# Altium schematic symbol library Own_lib.SchLib: 57 symbols
Pins are listed as number, name and electrical type; pins without a type are passive.

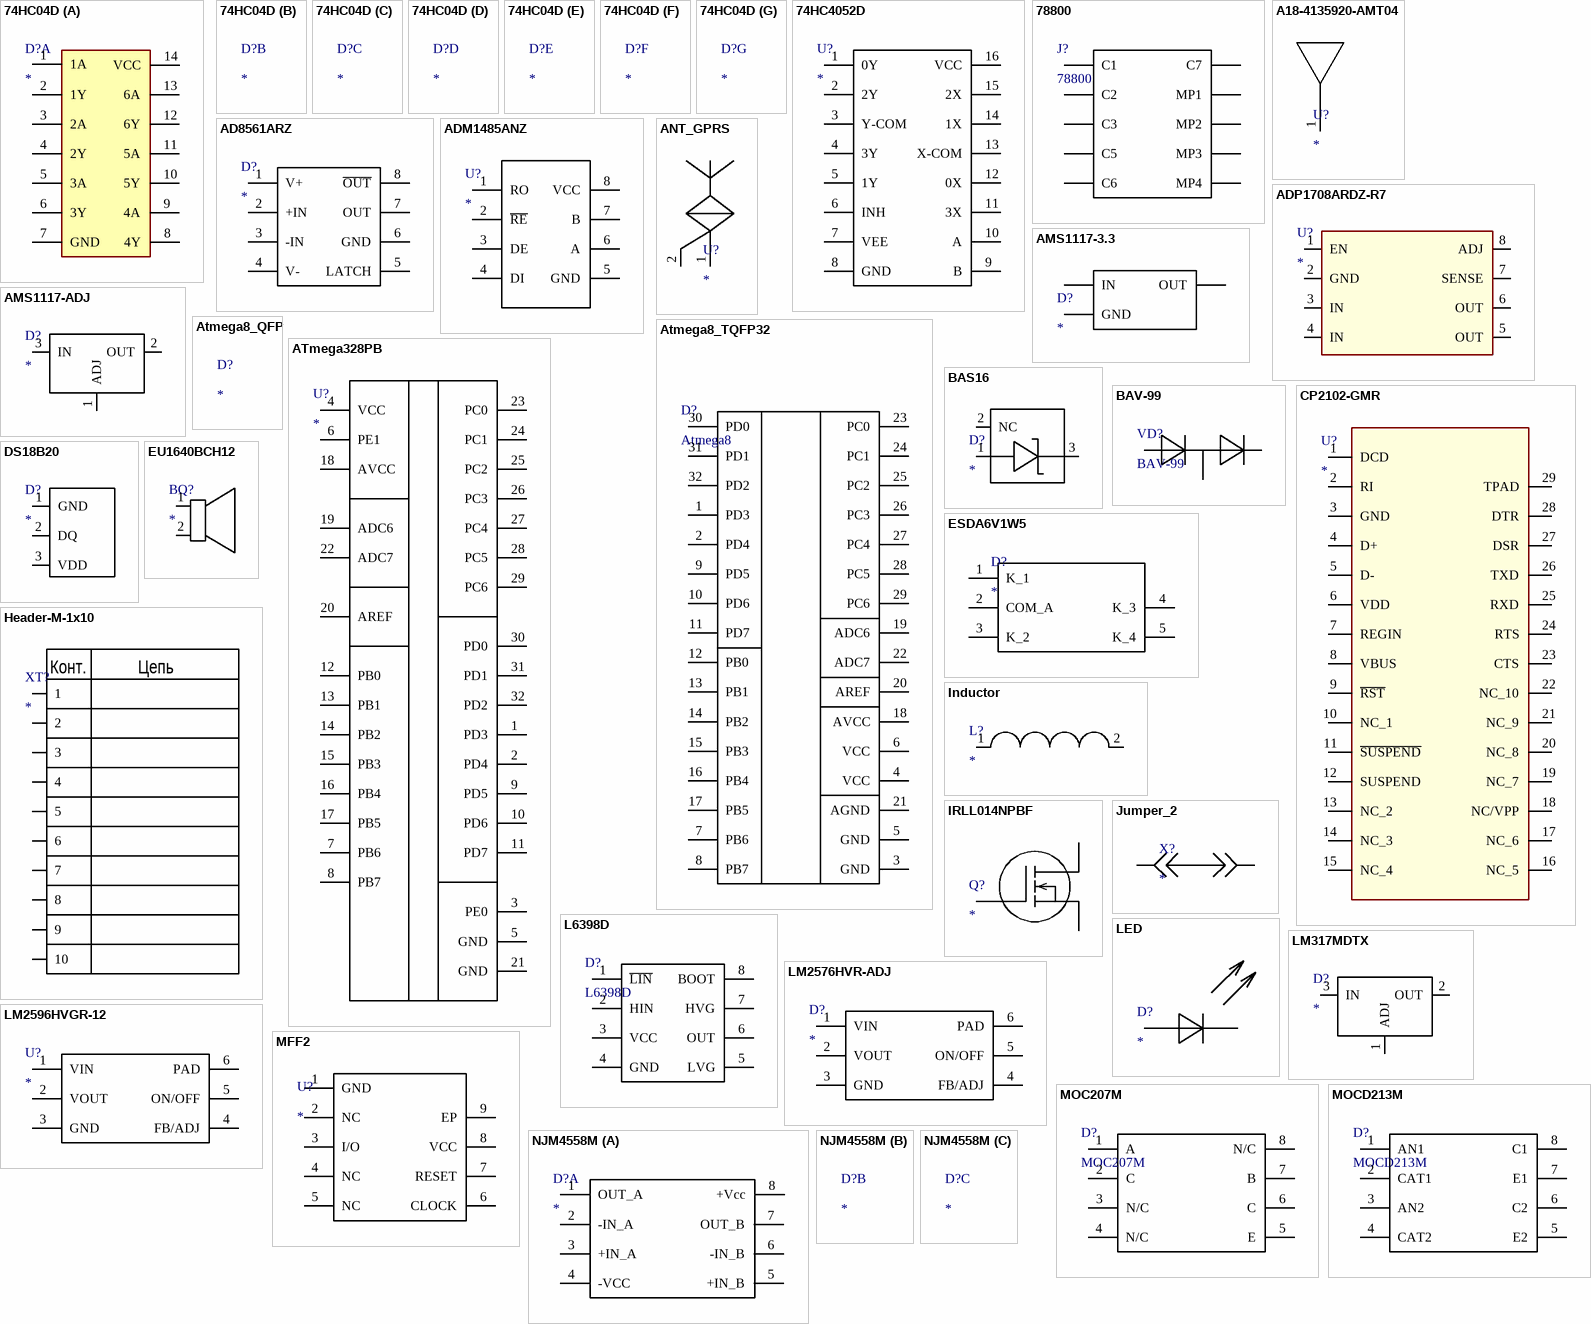
[diagram p0: symbols 74HC04D to NJM4558M]

## 74HC04D
designator D?
footprint SOIC127P600X175-14N
part A pins: 1 1A, 2 1Y, 3 2A, 4 2Y, 5 3A, 6 3Y, 7 GND, 8 4Y, 9 4A, 10 5Y, 11 5A, 12 6Y, 13 6A, 14 VCC
1 alternate drawing of the same symbol

## 74HC4052D
designator U?
footprint SOIC127P600X175-16N
pins: 1 0Y, 2 2Y, 3 Y-COM, 4 3Y, 5 1Y, 6 INH, 7 VEE, 8 GND, 9 B, 10 A, 11 3X, 12 0X, 13 X-COM, 14 1X, 15 2X, 16 VCC

## 78800
designator J?
pins: C1, C2, C3, C5, C6, C7, MP1, MP2, MP3, MP4

## A18-4135920-AMT04
designator U?
footprint A18-4135920-AMT04
pins: 1

## AD8561ARZ
designator D?
footprint SOIC127P600X175-8N
pins: 1 V+, 2 +IN, 3 -IN, 4 V-, 5 LATCH, 6 GND, 7 OUT, 8 ~{OUT}

## ADM1485ANZ
designator U?
footprint DIP794W56P254L959H533Q8N
pins: 1 RO, 2 ~{RE}, 3 DE, 4 DI, 5 GND, 6 A, 7 B, 8 VCC

## ADP1708ARDZ-R7
designator U?
footprint SOIC127P600X175-8N
pins: 1 EN, 2 GND, 3 IN, 4 IN, 5 OUT, 6 OUT, 7 SENSE, 8 ADJ

## AMS1117-3.3
designator D?
Type: Линейный стабилизатор напряжения; Package: [SOT-223]
footprint SOT-223(BCE)
pins: 1 GND, 2 OUT, 3 IN

## AMS1117-ADJ
designator D?
https://www.chipdip.ru/product/lm1117gs-adj; Type: Линейный табилизатор напряжения; Package: [SOT-223]
footprint SOT-223(BCE)
pins: 1 ADJ, 2 OUT, 3 IN

## ANT_GPRS
designator U?
footprint ANT_GPRS
pins: 1 NET, 2 GND

## Atmega8_QFP
designator D?

## Atmega8_TQFP32
designator D?, comment Atmega8
Type: Микроконтроллер; Package: [TQFP32]
footprint TQFP32 (Thin QFP, 32-Leads, Body 7x7mm, Pitch 0.8mm, IPC Low Density)
pins: 1 PD3, 2 PD4, 3 GND, 4 VCC, 5 GND, 6 VCC, 7 PB6, 8 PB7, 9 PD5, 10 PD6, 11 PD7, 12 PB0, 13 PB1, 14 PB2, 15 PB3, 16 PB4, 17 PB5, 18 AVCC, 19 ADC6, 20 AREF, 21 AGND, 22 ADC7, 23 PC0, 24 PC1, 25 PC2, 26 PC3, 27 PC4, 28 PC5, 29 PC6, 30 PD0, 31 PD1, 32 PD2

## ATmega328PB
designator U?
footprint QFP80P900X900X120-32N
pins: 1 PD3, 2 PD4, 3 PE0, 4 VCC, 5 GND, 6 PE1, 7 PB6, 8 PB7, 9 PD5, 10 PD6, 11 PD7, 12 PB0, 13 PB1, 14 PB2, 15 PB3, 16 PB4, 17 PB5, 18 AVCC, 19 ADC6, 20 AREF, 21 GND, 22 ADC7, 23 PC0, 24 PC1, 25 PC2, 26 PC3, 27 PC4, 28 PC5, 29 PC6, 30 PD0, 31 PD1, 32 PD2

## BAS16
designator D?
footprint SOT95P240X110-3N
pins: 1 A, 2 NC, 3 C

## BAV-99
designator VD?
https://www.chipdip.ru/product/bav99-nxp
footprint SOT23-3 (SOT23, 3 pin)
pins: 1, 2, 3

## CP2102-GMR
designator U?
footprint QFN50P500X500X100-29N-D
pins: 1 DCD, 2 RI, 3 GND, 4 D+, 5 D-, 6 VDD, 7 REGIN, 8 VBUS, 9 ~{RST}, 10 NC_1, 11 ~{SUSPEND}, 12 SUSPEND, 13 NC_2, 14 NC_3, 15 NC_4, 16 NC_5, 17 NC_6, 18 NC/VPP, 19 NC_7, 20 NC_8, 21 NC_9, 22 NC_10, 23 CTS, 24 RTS, 25 RXD, 26 TXD, 27 DSR, 28 DTR, 29 TPAD

## DS18B20
designator D?
https://www.chipdip.ru/product/ds18b20-umw
footprint DS18B20
pins: 1 GND, 2 DQ, 3 VDD

## ESDA6V1W5
designator D?
footprint SOT65P210X110-5N
pins: 1 K_1, 2 COM_A, 3 K_2, 4 K_3, 5 K_4

## EU1640BCH12
designator BQ?
footprint eu1640bch12
pins: 1, 2

## Header-M-1x10
designator XT?
pins: 1, 2, 3, 4, 5, 6, 7, 8, 9, 10
text: Конт.; Цепь

## Inductor
designator L?
pins: 1, 2

## IRLL014NPBF
designator Q?
footprint IRLL01NPBF
pins: 1 G, 2 D, 3 S

## Jumper_2
designator X?
footprint Solder_Jumper
pins: 1, 2

## L6398D
designator D?
https://www.chipdip.ru/product0/8009975927; Type: MOSFET-драйвер; Footpeint: [SO-8]
footprint SOIC127P600X175-8N
pins: 1 ~{LIN}, 2 HIN, 3 VCC, 4 GND, 5 LVG, 6 OUT, 7 HVG, 8 BOOT

## LED
designator D?
pins: 1 A, 2 C

## LM317MDTX
designator D?
https://www.chipdip.ru/product/lm317mdtx; Type: Стабилизатор напряжения; Package: [D-PACK/TO-252]
footprint TO-252
pins: 1 ADJ, 2 OUT, 3 IN

## LM2576HVR-ADJ
designator D?
Type: Импульсный DC/DC преобразователь; Package: [D2PAK-5/TO-263-5]
footprint TO-263-5
pins: 1 VIN, 2 VOUT, 3 GND, 4 FB/ADJ, 5 ON/OFF, 6 PAD

## LM2596HVGR-12
designator U?
footprint TO-263-5
pins: 1 VIN, 2 VOUT, 3 GND, 4 FB/ADJ, 5 ON/OFF, 6 PAD

## MFF2
designator U?
footprint SON127P600X500X90-9N-D
pins: 1 GND, 2 NC, 3 I/O, 4 NC, 5 NC, 6 CLOCK, 7 RESET, 8 VCC, 9 EP

## MOC207M
designator D?
https://www.chipdip.ru/product/moc207?from=suggest_product
footprint SOIC127P594X363-8N
pins: 1 A, 2 C, 3 N/C, 4 N/C, 5 E, 6 C, 7 B, 8 N/C

## MOCD213M
designator D?
https://www.chipdip.ru/product/mocd213m?from=suggest_product
footprint SOIC127P594X363-8N
pins: 1 AN1, 2 CAT1, 3 AN2, 4 CAT2, 5 E2, 6 C2, 7 E1, 8 C1

## NJM4558M
designator D?
footprint SOIC127P680X200-8N
part A pins: 1 OUT_A, 2 -IN_A, 3 +IN_A, 4 -VCC, 5 +IN_B, 6 -IN_B, 7 OUT_B, 8 +Vcc
1 alternate drawing of the same symbol

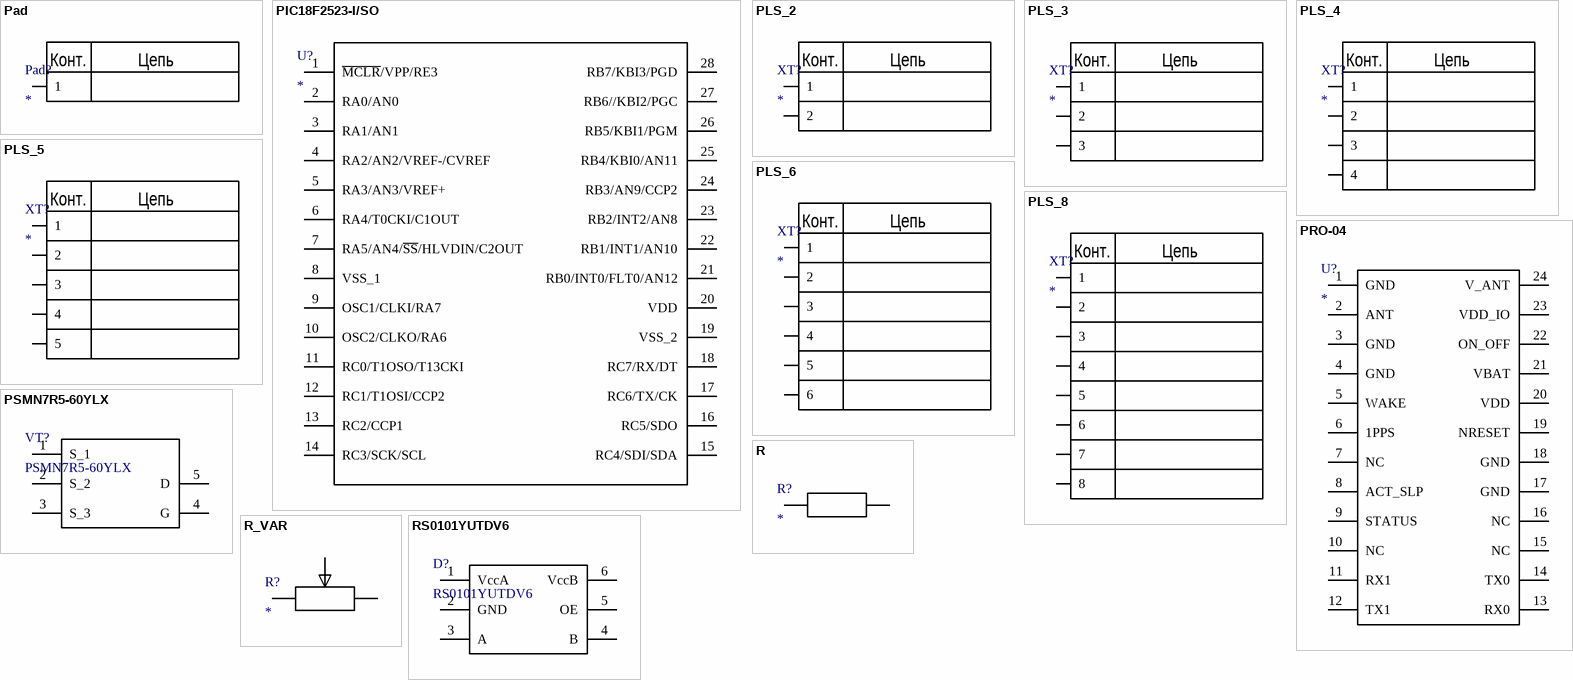
[diagram p1: symbols Pad to RS0101YUTDV6]

## Pad
designator Pad?
footprint Pad 2,5x1,3mm
pins: 1
text: Конт.; Цепь

## PIC18F2523-I/SO
designator U?
footprint SOIC127P1030X265-28N
pins: 1 ~{MCLR}/VPP/RE3, 2 RA0/AN0, 3 RA1/AN1, 4 RA2/AN2/VREF-/CVREF, 5 RA3/AN3/VREF+, 6 RA4/T0CKI/C1OUT, 7 RA5/AN4/~{SS}/HLVDIN/C2OUT, 8 VSS_1, 9 OSC1/CLKI/RA7, 10 OSC2/CLKO/RA6, 11 RC0/T1OSO/T13CKI, 12 RC1/T1OSI/CCP2, 13 RC2/CCP1, 14 RC3/SCK/SCL, 15 RC4/SDI/SDA, 16 RC5/SDO, 17 RC6/TX/CK, 18 RC7/RX/DT, 19 VSS_2, 20 VDD, 21 RB0/INT0/FLT0/AN12, 22 RB1/INT1/AN10, 23 RB2/INT2/AN8, 24 RB3/AN9/CCP2, 25 RB4/KBI0/AN11, 26 RB5/KBI1/PGM, 27 RB6//KBI2/PGC, 28 RB7/KBI3/PGD

## PLS_2
designator XT?
footprint PLS-2
pins: 1, 2
text: Конт.; Цепь

## PLS_3
designator XT?
pins: 1, 2, 3
text: Конт.; Цепь

## PLS_4
designator XT?
pins: 1, 2, 3, 4
text: Конт.; Цепь

## PLS_5
designator XT?
footprint Model Name (Footprint not found)
footprint PLS-5
pins: 1, 2, 3, 4, 5
text: Конт.; Цепь

## PLS_6
designator XT?
footprint PLS-6
pins: 1, 2, 3, 4, 5, 6
text: Конт.; Цепь

## PLS_8
designator XT?
footprint PLS-8
pins: 1, 2, 3, 4, 5, 6, 7, 8
text: Конт.; Цепь

## PRO-04
designator U?
footprint PRO-04_SMD
pins: 1 GND, 2 ANT, 3 GND, 4 GND, 5 WAKE, 6 1PPS, 7 NC, 8 ACT_SLP, 9 STATUS, 10 NC, 11 RX1, 12 TX1, 13 RX0, 14 TX0, 15 NC, 16 NC, 17 GND, 18 GND, 19 NRESET, 20 VDD, 21 VBAT, 22 ON_OFF, 23 VDD_IO, 24 V_ANT

## PSMN7R5-60YLX
designator VT?
https://www.chipdip.ru/product/psmn017-60ys-115; Type: Транзистор MOSFET N-канал; Power dissipation: 74Вт; U max: 60В, 44А; Package: [LFPAK]
footprint LFPAK
pins: 1 S_1, 2 S_2, 3 S_3, 4 G, 5 D

## R
designator R?
pins: 1, 2

## R_VAR
designator R?
footprint RVAR
pins: 1, 2, 3

## RS0101YUTDV6
designator D?
https://www.chipdip.ru/product0/8011065169; Type: Преобразователь уровней; Package: [DFN1.45x1.0-6L]
footprint DFN1.54x1.0-6L
pins: 1 VccA, 2 GND, 3 A, 4 B, 5 OE, 6 VccB

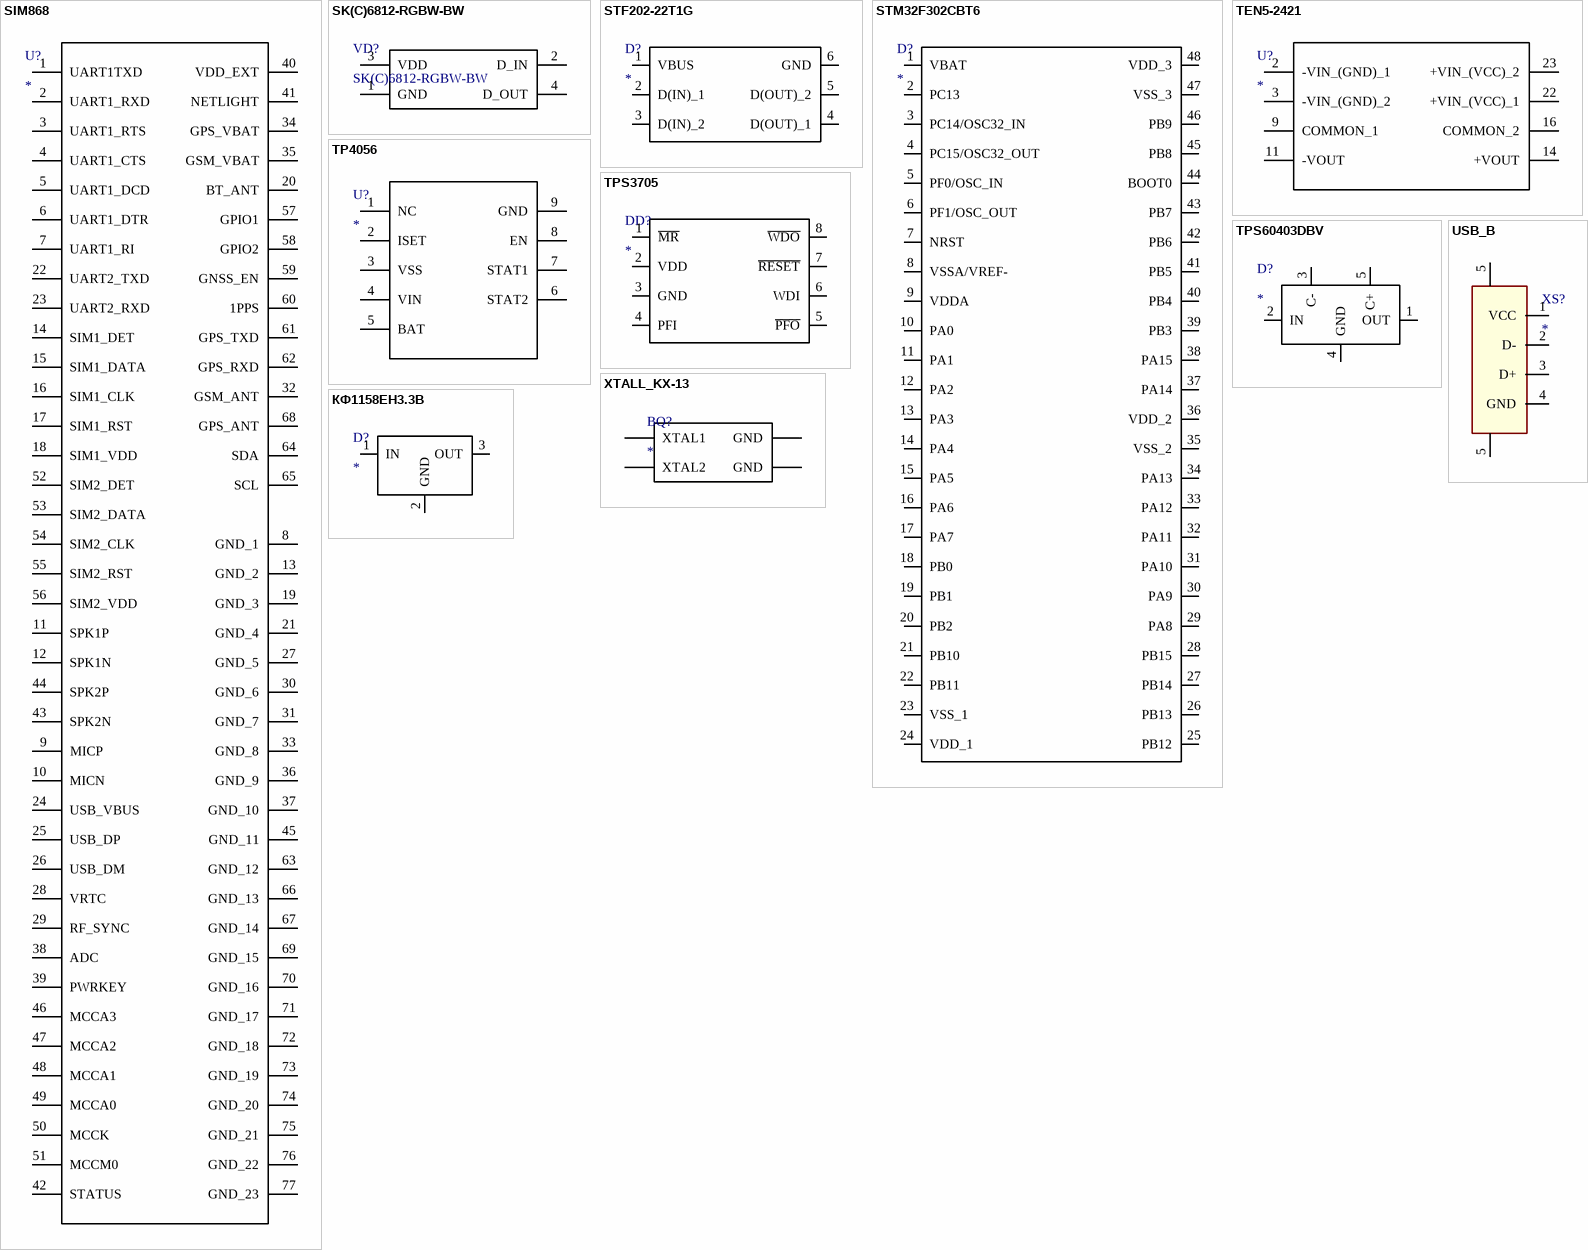
[diagram p2: symbols SIM868 to КФ1158ЕН3.3В]

## SIM868
designator U?
footprint SIM868
pins: 1 UART1TXD, 2 UART1_RXD, 3 UART1_RTS, 4 UART1_CTS, 5 UART1_DCD, 6 UART1_DTR, 7 UART1_RI, 8 GND_1, 9 MICP, 10 MICN, 11 SPK1P, 12 SPK1N, 13 GND_2, 14 SIM1_DET, 15 SIM1_DATA, 16 SIM1_CLK, 17 SIM1_RST, 18 SIM1_VDD, 19 GND_3, 20 BT_ANT, 21 GND_4, 22 UART2_TXD, 23 UART2_RXD, 24 USB_VBUS, 25 USB_DP, 26 USB_DM, 27 GND_5, 28 VRTC, 29 RF_SYNC, 30 GND_6, 31 GND_7, 32 GSM_ANT, 33 GND_8, 34 GPS_VBAT, 35 GSM_VBAT, 36 GND_9, 37 GND_10, 38 ADC, 39 PWRKEY, 40 VDD_EXT, 41 NETLIGHT, 42 STATUS, 43 SPK2N, 44 SPK2P, 45 GND_11, 46 MCCA3, 47 MCCA2, 48 MCCA1, 49 MCCA0, 50 MCCK, 51 MCCM0, 52 SIM2_DET, 53 SIM2_DATA, 54 SIM2_CLK, 55 SIM2_RST, 56 SIM2_VDD, 57 GPIO1, 58 GPIO2, 59 GNSS_EN, 60 1PPS, 61 GPS_TXD, 62 GPS_RXD, 63 GND_12, 64 SDA, 65 SCL, 66 GND_13, 67 GND_14, 68 GPS_ANT, 69 GND_15, 70 GND_16, 71 GND_17, 72 GND_18, 73 GND_19, 74 GND_20, 75 GND_21, 76 GND_22, 77 GND_23

## SK(C)6812-RGBW-BW
designator VD?
Type: Светодиод SMD с пиксельной адресацией; Package: [SMD 5050]
footprint SK(C)6812-RGBW-BW
pins: 1 GND, 2 D_IN, 3 VDD, 4 D_OUT

## STF202-22T1G
designator D?
Type: USB-фильтр с защитой от электростатического разряда; Package: [TSOP-6]
footprint SOT95P275X110-6N
pins: 1 VBUS, 2 D(IN)_1, 3 D(IN)_2, 4 D(OUT)_1, 5 D(OUT)_2, 6 GND

## STM32F302CBT6
designator D?
footprint QFP50P900X900X160-48N
pins: 1 VBAT, 2 PC13, 3 PC14/OSC32_IN, 4 PC15/OSC32_OUT, 5 PF0/OSC_IN, 6 PF1/OSC_OUT, 7 NRST, 8 VSSA/VREF-, 9 VDDA, 10 PA0, 11 PA1, 12 PA2, 13 PA3, 14 PA4, 15 PA5, 16 PA6, 17 PA7, 18 PB0, 19 PB1, 20 PB2, 21 PB10, 22 PB11, 23 VSS_1, 24 VDD_1, 25 PB12, 26 PB13, 27 PB14, 28 PB15, 29 PA8, 30 PA9, 31 PA10, 32 PA11, 33 PA12, 34 PA13, 35 VSS_2, 36 VDD_2, 37 PA14, 38 PA15, 39 PB3, 40 PB4, 41 PB5, 42 PB6, 43 PB7, 44 BOOT0, 45 PB8, 46 PB9, 47 VSS_3, 48 VDD_3

## TEN5-2421
designator U?
footprint TEN52422
pins: 2 -VIN_(GND)_1, 3 -VIN_(GND)_2, 9 COMMON_1, 11 -VOUT, 14 +VOUT, 16 COMMON_2, 22 +VIN_(VCC)_1, 23 +VIN_(VCC)_2

## TP4056
designator U?
footprint SOIC127P600X175-9N
pins: 1 NC, 2 ISET, 3 VSS, 4 VIN, 5 BAT, 6 STAT2, 7 STAT1, 8 EN, 9 GND

## TPS3705
designator DD?
Type: *; Package: *
footprint SOIC127P600X175-8N
pins: 1 ~{MR}, 2 VDD, 3 GND, 4 PFI, 5 ~{PFO}, 6 WDI, 7 ~{RESET}, 8 ~{WDO}

## TPS60403DBV
designator D?
Parameter 1: Инвертор напряжения; Parameter 2: [SOT-23-5]
footprint SOT23-5
pins: 1 OUT, 2 IN, 3 C-, 4 GND, 5 C+

## USB_B
designator XS?
footprint 670688000
pins: 1 VCC, 2 D-, 3 D+, 4 GND, 5 MH1, 5 MH2

## XTALL_KX-13
designator BQ?
footprint XTALL_KX-13
pins: 1 XTAL1, 2 GND, 3 XTAL2, 4 GND

## КФ1158ЕН3.3В
designator D?
https://www.chipdip.ru/product/kf1158en3.3v-2021g; Type: *; Package: *
footprint TO-252
pins: 1 IN, 2 GND, 3 OUT

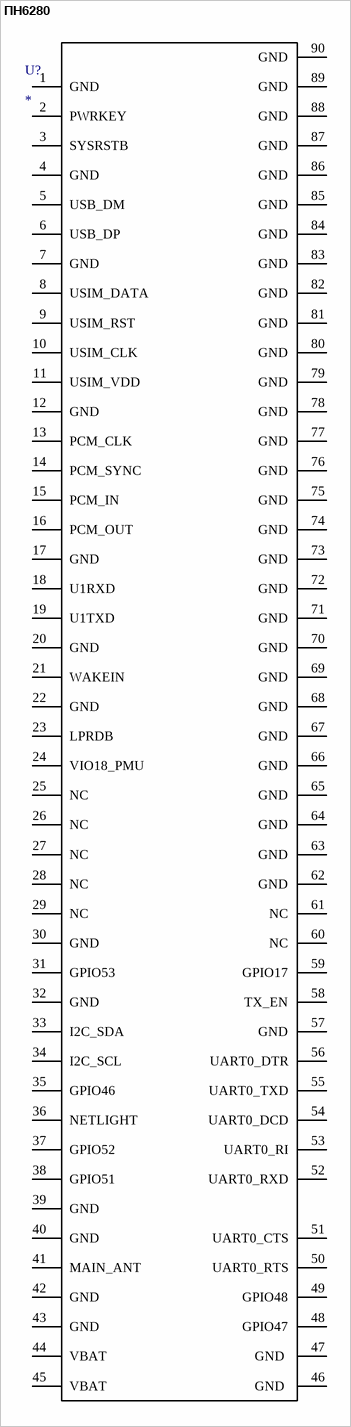
[diagram p3: symbol ПН6280]

## ПН6280
designator U?
footprint ПН6280
pins: 1 GND, 2 PWRKEY, 3 SYSRSTB, 4 GND, 5 USB_DM, 6 USB_DP, 7 GND, 8 USIM_DATA, 9 USIM_RST, 10 USIM_CLK, 11 USIM_VDD, 12 GND, 13 PCM_CLK, 14 PCM_SYNC, 15 PCM_IN, 16 PCM_OUT, 17 GND, 18 U1RXD, 19 U1TXD, 20 GND, 21 WAKEIN, 22 GND, 23 LPRDB, 24 VIO18_PMU, 25 NC, 26 NC, 27 NC, 28 NC, 29 NC, 30 GND, 31 GPIO53, 32 GND, 33 I2C_SDA, 34 I2C_SCL, 35 GPIO46, 36 NETLIGHT, 37 GPIO52, 38 GPIO51, 39 GND, 40 GND, 41 MAIN_ANT, 42 GND, 43 GND, 44 VBAT, 45 VBAT, 46 GND , 47 GND , 48 GPIO47, 49 GPIO48, 50 UART0_RTS, 51 UART0_CTS, 52 UART0_RXD, 53 UART0_RI, 54 UART0_DCD, 55 UART0_TXD, 56 UART0_DTR, 57 GND, 58 TX_EN, 59 GPIO17, 60 NC, 61 NC, 62 GND, 63 GND, 64 GND, 65 GND, 66 GND, 67 GND, 68 GND, 69 GND, 70 GND, 71 GND, 72 GND, 73 GND, 74 GND, 75 GND, 76 GND, 77 GND, 78 GND, 79 GND, 80 GND, 81 GND, 82 GND, 83 GND, 84 GND, 85 GND, 86 GND, 87 GND, 88 GND, 89 GND, 90 GND